# Altium footprint library MZBT_PcpLibrary.PcbLib: 144 footprints (part 8 of 9)
Each footprint in its own frame and in the unit in brackets; x right, y up, seen from the top. Pads: shape width x height; smd on the part's side, far side on the other; paste and mask are expansions set on the pad; w line width, h text height; cw(c..) or ccw(c..) is an arc to the next point about the centre after c.
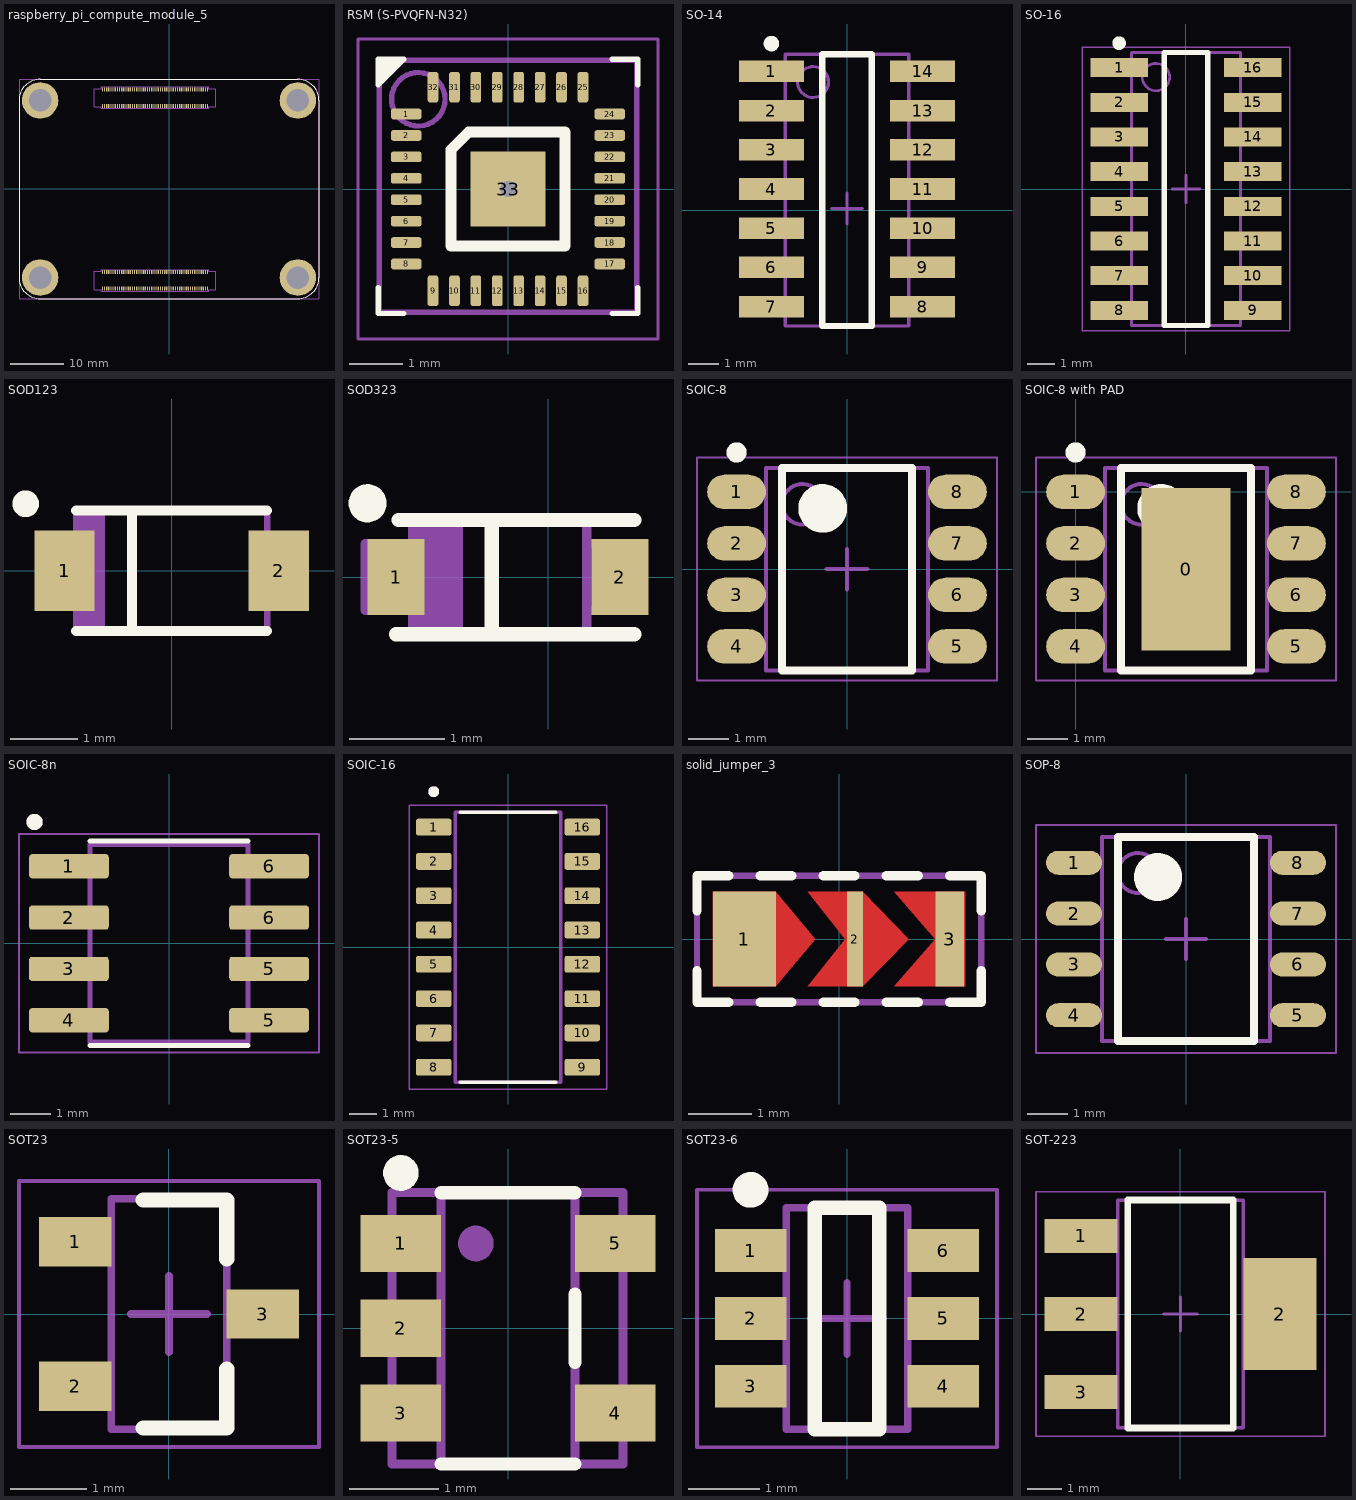
[diagram p7: the footprints below, top view; thin cyan lines are the x and y axes]

## raspberry_pi_compute_module_5 [mil]
pads (204):
  rect 9x28 smd paste+0: 1(283.17,730.65) 2(283.17,609.39) 3(267.42,730.65) 4(267.42,609.39) 5(251.67,730.65) 6(251.67,609.39) 7(235.92,730.65) 8(235.92,609.39) 9(220.17,730.65) 10(220.17,609.39) 11(204.43,730.65) 12(204.43,609.39) 13(188.68,730.65) 14(188.68,609.39) 15(172.93,730.65) 16(172.93,609.39) 17(157.18,730.65) 18(157.18,609.39) 19(141.43,730.65) 20(141.43,609.39) 21(125.69,730.65) 22(125.69,609.39) 23(109.94,730.65) 24(109.94,609.39) 25(94.19,730.65) 26(94.19,609.39) 27(78.44,730.65) 28(78.44,609.39) 29(62.69,730.65) 30(62.69,609.39) 31(46.95,730.65) 32(46.95,609.39) 33(31.2,730.65) 34(31.2,609.39) 35(15.45,730.65) 36(15.45,609.39) 37(-0.3,730.65) 38(-0.3,609.39) 39(-16.05,730.65) 40(-16.05,609.39) 41(-31.79,730.65) 42(-31.79,609.39) 43(-47.54,730.65) 44(-47.54,609.39) 45(-63.29,730.65) 46(-63.29,609.39) 47(-79.04,730.65) 48(-79.04,609.39) 49(-94.79,730.65) 50(-94.79,609.39) 51(-110.53,730.65) 52(-110.53,609.39) 53(-126.28,730.65) 54(-126.28,609.39) 55(-142.03,730.65) 56(-142.03,609.39) 57(-157.78,730.65) 58(-157.78,609.39) 59(-173.53,730.65) 60(-173.53,609.39) 61(-189.27,730.65) 62(-189.27,609.39) 63(-205.02,730.65) 64(-205.02,609.39) 65(-220.77,730.65) 66(-220.77,609.39) 67(-236.52,730.65) 68(-236.52,609.39) 69(-252.27,730.65) 70(-252.27,609.39) 71(-268.01,730.65) 72(-268.01,609.39) 73(-283.76,730.65) 74(-283.76,609.39) 75(-299.51,730.65) 76(-299.51,609.39) 77(-315.26,730.65) 78(-315.26,609.39) 79(-331.01,730.65) 80(-331.01,609.39) 81(-346.75,730.65) 82(-346.75,609.39) 83(-362.5,730.65) 84(-362.5,609.39) 85(-378.25,730.65) 86(-378.25,609.39) 87(-394,730.65) 88(-394,609.39) 89(-409.75,730.65) 90(-409.75,609.39) 91(-425.49,730.65) 92(-425.49,609.39) 93(-441.24,730.65) 94(-441.24,609.39) 95(-456.99,730.65) 96(-456.99,609.39) 97(-472.74,730.65) 98(-472.74,609.39) 99(-488.49,730.65) 100(-488.49,609.39) 101(283.17,-609.39) 102(283.17,-730.65) 103(267.42,-609.39) 104(267.42,-730.65) 105(251.67,-609.39) 106(251.67,-730.65) 107(235.92,-609.39) 108(235.92,-730.65) 109(220.17,-609.39) 110(220.17,-730.65) 111(204.43,-609.39) 112(204.43,-730.65) 113(188.68,-609.39) 114(188.68,-730.65) 115(172.93,-609.39) 116(172.93,-730.65) 117(157.18,-609.39) 118(157.18,-730.65) 119(141.43,-609.39) 120(141.43,-730.65) 121(125.69,-609.39) 122(125.69,-730.65) 123(109.94,-609.39) 124(109.94,-730.65) 125(94.19,-609.39) 126(94.19,-730.65) 127(78.44,-609.39) 128(78.44,-730.65) 129(62.69,-609.39) 130(62.69,-730.65) 131(46.95,-609.39) 132(46.95,-730.65) 133(31.2,-609.39) 134(31.2,-730.65) 135(15.45,-609.39) 136(15.45,-730.65) 137(-0.3,-609.39) 138(-0.3,-730.65) 139(-16.05,-609.39) 140(-16.05,-730.65) 141(-31.79,-609.39) 142(-31.79,-730.65) 143(-47.54,-609.39) 144(-47.54,-730.65) 145(-63.29,-609.39) 146(-63.29,-730.65) 147(-79.04,-609.39) 148(-79.04,-730.65) 149(-94.79,-609.39) 150(-94.79,-730.65) 151(-110.53,-609.39) 152(-110.53,-730.65) 153(-126.28,-609.39) 154(-126.28,-730.65) 155(-142.03,-609.39) 156(-142.03,-730.65) 157(-157.78,-609.39) 158(-157.78,-730.65) 159(-173.53,-609.39) 160(-173.53,-730.65) 161(-189.27,-609.39) 162(-189.27,-730.65) 163(-205.02,-609.39) 164(-205.02,-730.65) 165(-220.77,-609.39) 166(-220.77,-730.65) 167(-236.52,-609.39) 168(-236.52,-730.65) 169(-252.27,-609.39) 170(-252.27,-730.65) 171(-268.01,-609.39) 172(-268.01,-730.65) 173(-283.76,-609.39) 174(-283.76,-730.65) 175(-299.51,-609.39) 176(-299.51,-730.65) 177(-315.26,-609.39) 178(-315.26,-730.65) 179(-331.01,-609.39) 180(-331.01,-730.65) 181(-346.75,-609.39) 182(-346.75,-730.65) 183(-362.5,-609.39) 184(-362.5,-730.65) 185(-378.25,-609.39) 186(-378.25,-730.65) 187(-394,-609.39) 188(-394,-730.65) 189(-409.75,-609.39) 190(-409.75,-730.65) 191(-425.49,-609.39) 192(-425.49,-730.65) 193(-441.24,-609.39) 194(-441.24,-730.65) 195(-456.99,-609.39) 196(-456.99,-730.65) 197(-472.74,-609.39) 198(-472.74,-730.65) 199(-488.49,-609.39) 200(-488.49,-730.65)
  round 267.72 hole 165.35: ""(-944.88,-649.25) ""(-944.88,649.25) ""(944.88,-649.25) ""(944.88,649.25)
Top Overlay:
  lines w7.87: -1099.77,-649.26 ccw(c-944.89,-649.26) -944.89,-804.14 944.89,-804.14 ccw(c944.89,-649.26) 1099.77,-649.25 1099.77,649.25 ccw(c944.88,649.25) 944.88,804.13 -944.89,804.13 ccw(c-944.89,649.25) -1099.77,649.25 -1099.77,-649.26
Top Comment:
  text ".Comment" at -100.85,-57.85 h59.06
Top Designator (Mech9):
  text ".Designator" at -115.32,27.28 h59.06
Top Component Outline:
  lines w3.94: -1099.49,-804.13 -1099.49,804.13 1099.77,804.13 1099.77,-804.13 -1099.49,-804.13 ; -548.13,-737.23 -548.13,-670.69 -548.13,-604.15 -498.11,-604.15 -498.11,-592.01 292.25,-592.01 292.25,-604.15 341.63,-604.15 341.63,-737.23 292.25,-737.23 292.25,-748.5 -498.11,-748.5 -498.11,-737.23 -548.13,-737.23 ; -548.13,602.81 -548.13,669.35 -548.13,735.89 -498.11,735.89 -498.11,748.03 292.25,748.03 292.25,735.89 341.63,735.89 341.63,602.81 292.25,602.81 292.25,591.54 -498.11,591.54 -498.11,602.81 -548.13,602.81
Top Courtyard:
  lines w3.94: -1099.49,-804.13 -1099.49,804.13 1099.77,804.13 1099.77,-804.13 -1099.49,-804.13
3D body "SMTSO-M2.5 Гайка для пайки на плату .STEP": height 68.11, standoff -51.18, extent -1054.33,539.8 -835.44,758.7
3D body "SMTSO-M2.5 Гайка для пайки на плату .STEP": height 68.11, standoff -51.18, extent -1054.33,-758.7 -835.44,-539.8
3D body "SMTSO-M2.5 Гайка для пайки на плату .STEP": height 68.11, standoff -51.18, extent 835.44,-758.7 1054.33,-539.8
3D body "SMTSO-M2.5 Гайка для пайки на плату .STEP": height 68.11, standoff -51.18, extent 835.44,539.8 1054.33,758.7
3D body "User Library-DF40C-100DP-0_4V(51).step": height 57.09, standoff 0, extent -548.13,602.81 341.63,735.89
3D body "User Library-DF40C-100DP-0_4V(51).step": height 57.09, standoff 0, extent -548.13,-736.56 341.63,-603.48
3D body "CM5R5-3dsteps.step": height 205.16, standoff 23.23, extent -1082.68,-787.4 1082.68,787.4

## RSM (S-PVQFN-N32) [mm]
height 1
pads (33):
  rrect50% 0.575x0.2 smd mask+0.05: 1(-1.9,1.4) 2(-1.9,1) 3(-1.9,0.6) 4(-1.9,0.2) 5(-1.9,-0.2) 6(-1.9,-0.6) 7(-1.9,-1) 8(-1.9,-1.4) 17(1.9,-1.4) 18(1.9,-1) 19(1.9,-0.6) 20(1.9,-0.2) 21(1.9,0.2) 22(1.9,0.6) 23(1.9,1) 24(1.9,1.4)
  rrect50% 0.2x0.575 smd mask+0.05: 9(-1.4,-1.9) 10(-1,-1.9) 11(-0.6,-1.9) 12(-0.2,-1.9) 13(0.2,-1.9) 14(0.6,-1.9) 15(1,-1.9) 16(1.4,-1.9) 25(1.4,1.9) 26(1,1.9) 27(0.6,1.9) 28(0.2,1.9) 29(-0.2,1.9) 30(-0.6,1.9) 31(-1,1.9) 32(-1.4,1.9)
  rect 1.4x1.4 smd mask+0.05: 33(0,0)
via 0,0 diameter 0.5 hole 0.3
Top Overlay:
  region: -2.425,2.425 -1.94,2.425 -2.425,1.94
  lines w0.1: -2.425,-1.84 -2.425,-2.325 -1.94,-2.325 ; 1.94,-2.325 2.425,-2.325 2.425,-1.84 ; 1.94,2.425 2.425,2.425 2.425,1.94 ; -2.425,1.94 -1.94,2.425 -2.425,2.425 -2.425,1.94
  lines w0.2: -1.065,-1.065 -1.065,0.735 -0.735,1.065 1.065,1.065 1.065,-1.065 -1.065,-1.065
Top Designator (Mech9):
  text ".Comment" at -1.3,-0.5 h0.6
  text ".Designator" at -0.8,0.7 h0.8
Top Component Outline:
  circle w0.1: c-1.675,1.675 r0.5
  lines w0.1: -2.4,-2.3 2.4,-2.3 2.4,2.4 -2.4,2.4 -2.4,-2.3
Top Courtyard:
  lines w0.05: -2.8,-2.8 2.8,-2.8 2.8,2.8 -2.8,2.8 -2.8,-2.8
  lines w0.1: -0.5,0 0.5,0 ; 0,-0.5 0,0.5
3D body "User Library-QFN 32.step": height 0.57, standoff -0.04, extent -2.001,-2 2.001,2.002

## SO-14 [mm]
pads (14):
  rect 2.1x0.7 smd: 1(-2.45,4.497) 2(-2.45,3.227) 3(-2.45,1.957) 4(-2.45,0.687) 5(-2.45,-0.583) 6(-2.45,-1.853) 7(-2.45,-3.123) 8(2.45,-3.123) 9(2.45,-1.853) 10(2.45,-0.583) 11(2.45,0.687) 12(2.45,1.957) 13(2.45,3.227) 14(2.45,4.497)
Top Overlay:
  circle w0.25: c-2.45,5.397 r0.125
  lines w0.2: -0.8,-3.75 0.8,-3.75 0.8,5.052 -0.8,5.052 -0.8,-3.75
Top Comment:
  text ".Comment" at -0.6,-6.148 h0.6
  text ".Comment" at -2.189,-0.952 h1.52
Top Designator (Mech9):
  text ".Designator" at -2.617,0.272 h1.52
Top Component Outline:
  circle w0.1: c-1.1,4.152 r0.5
  lines w0.1: -0.5,0.052 0.5,0.052 ; 0,-0.448 0,0.552 ; -2,-3.75 2,-3.75 2,5.052 -2,5.052 -2,-3.75
3D body "User Library-so14-1.step": height 1.7, standoff 0, extent -3,-3.72 3,5.08

## SO-16 [mm] "ch340g"
height 1.75
pads (16):
  rect 2.1x0.7 smd: 1(-2.45,4.445) 2(-2.45,3.175) 3(-2.45,1.905) 4(-2.45,0.635) 5(-2.45,-0.635) 6(-2.45,-1.905) 7(-2.45,-3.175) 8(-2.45,-4.445) 9(2.45,-4.445) 10(2.45,-3.175) 11(2.45,-1.905) 12(2.45,-0.635) 13(2.45,0.635) 14(2.45,1.905) 15(2.45,3.175) 16(2.45,4.445)
Top Overlay:
  circle w0.25: c-2.45,5.345 r0.125
  lines w0.2: -0.8,-5 0.8,-5 0.8,5 -0.8,5 -0.8,-5
Top Comment:
  text ".Comment" at -2.189,-0.952 h1.52
Top Designator (Mech9):
  text ".Designator" at -2.617,0.272 h1.52
Top Component Outline:
  circle w0.1: c-1.1,4.1 r0.5
  lines w0.1: -0.5,0 0.5,0 ; 0,-0.5 0,0.5 ; -2,-5 2,-5 2,5 -2,5 -2,-5
Top Courtyard:
  lines w0.05: -3.8,-5.2 3.8,-5.2 3.8,5.2 -3.8,5.2 -3.8,-5.2
3D body "so16-1 (SOT109-1).STEP": height 1.78, standoff 0.01, extent -3.018,-4.985 3.118,4.985

## SOD123 [mm]
height 1.35
pads (2):
  rect 0.9x1.2 smd: 1(-1.6,0) 2(1.6,0)
Top Overlay:
  circle w0.2: c-2.18,1 r0.1
  lines w0.15: -1.425,-0.9 1.425,-0.9 ; -1.425,0.9 1.425,0.9 ; -0.595,-0.9 -0.595,0.9
Top Comment:
  text ".Comment" at -0.861,-0.374 h0.6
Top Designator (Mech9):
  text ".Designator" at -1.376,0.143 h0.8
Top Component Outline:
  lines w0.1: -1.425,-0.35 -1.925,-0.35 -1.925,0.35 -1.425,0.35 ; -1.33,-0.9 -1.33,0.9 ; -1.235,-0.9 -1.235,0.9 ; -1.14,-0.9 -1.14,0.9 ; -1.045,-0.9 -1.045,0.9 ; 1.425,-0.35 1.925,-0.35 1.925,0.35 1.425,0.35 ; -1.425,-0.9 1.425,-0.9 1.425,0.9 -1.425,0.9 -1.425,-0.9
3D body "SOT-123.step": height 1.12, standoff -0.03, extent -1.875,-0.775 1.825,0.825

## SOD323 [mm]
height 1.35
pads (2):
  rect 0.6x0.8 smd: 1(-1.6,0) 2(0.75,0)
Top Overlay:
  circle w0.2: c-1.9,0.775 r0.1
  lines w0.15: -1.6,-0.6 0.9,-0.6 ; -1.575,0.6 0.9,0.6 ; -0.595,-0.6 -0.595,0.6
Top Comment:
  text ".Comment" at -1.211,-0.449 h0.6
Top Designator (Mech9):
  text ".Designator" at -1.726,0.068 h0.8
Top Component Outline:
  lines w0.1: -1.425,-0.35 -1.925,-0.35 -1.925,0.35 -1.425,0.35 ; -1.35,-0.6 -1.35,0.6 ; -1.25,-0.6 -1.25,0.6 ; -1.15,-0.6 -1.15,0.6 ; -1.05,-0.6 -1.05,0.6 ; -0.95,-0.6 -0.95,0.6 ; 0.4,-0.35 0.9,-0.35 0.9,0.35 0.4,0.35 ; -1.425,-0.6 0.4,-0.6 0.4,0.6 -1.425,0.6 -1.425,-0.6
3D body "User Library-SOD323F-1.STEP": height 1, standoff 0, extent -1.675,-0.675 0.825,0.675

## SOIC-8 [mm] "LMV358"
height 1.75
pads (8):
  oval 1.45x0.85 smd: 1(-2.725,1.905) 2(-2.725,0.635) 3(-2.725,-0.635) 4(-2.725,-1.905) 5(2.725,-1.905) 6(2.725,-0.635) 7(2.725,0.635) 8(2.725,1.905)
Top Overlay:
  circle w0.25: c-2.725,2.88 r0.125
  circle w0.6: c-0.6,1.5 r0.3
  lines w0.2: -1.6,-2.5 -1.6,2.5 1.6,2.5 1.6,-2.5 -1.6,-2.5
Top Comment:
  text ".Comment" at -2.189,-0.952 h1.52
Top Designator (Mech9):
  text ".Designator" at -2.617,0.272 h1.52
Top 3D Body (Mech13):
  circle w0.1: c-1.1,1.6 r0.5
  lines w0.1: -2,-2.5 -2,2.5 2,2.5 2,-2.5 -2,-2.5
Top Courtyard:
  lines w0.05: -3.7,-2.75 -3.7,2.75 3.7,2.75 3.7,-2.75 -3.7,-2.75
  lines w0.1: -0.5,0 0.5,0 ; 0,-0.5 0,0.5
3D body "User Library-SOIC-8-1.step": height 1.75, standoff 0, extent -3,-2.45 3,2.45

## SOIC-8 with PAD [mm]
pads (9):
  rect 2.2x4 smd: 0(2.725,-1.905)
  oval 1.45x0.85 smd: 1(0,0) 2(0,-1.27) 3(0,-2.54) 4(0,-3.81) 5(5.45,-3.81) 6(5.45,-2.54) 7(5.45,-1.27) 8(5.45,0)
Top Overlay:
  circle w0.25: c0,0.975 r0.125
  circle w0.6: c2.125,-0.405 r0.3
  lines w0.2: 1.125,-4.405 1.125,0.595 4.325,0.595 4.325,-4.405 1.125,-4.405
Top Comment:
  text ".Comment" at 0.511,-2.852 h1.52
Top Designator (Mech9):
  text ".Designator" at 0.083,-1.628 h1.52
Top 3D Body (Mech13):
  circle w0.1: c1.625,-0.305 r0.5
  lines w0.1: 0.725,-4.405 0.725,0.595 4.725,0.595 4.725,-4.405 0.725,-4.405
Top Courtyard:
  lines w0.05: -0.975,-4.655 -0.975,0.845 6.425,0.845 6.425,-4.655 -0.975,-4.655
  lines w0.1: 2.225,-1.905 3.225,-1.905 ; 2.725,-2.405 2.725,-1.405
3D body "User Library-SOIC-8-1.step": height 1.75, standoff 0, extent -0.275,-4.355 5.725,0.545

## SOIC-8n [mm]
pads (8):
  rrect25% 1.97x0.6 smd: 1(-2.475,1.905) 2(-2.475,0.635) 3(-2.475,-0.635) 4(-2.475,-1.905) 5(2.475,-1.905) 5(2.475,-0.635) 6(2.475,0.635) 6(2.475,1.905)
Top Overlay:
  circle w0.2: c-3.325,3 r0.1
  lines w0.127: -1.95,-2.525 1.95,-2.525 ; -1.95,2.525 1.95,2.525
Top Comment:
  text ".Comment" at -2.189,-0.952 h1.52
Top Designator (Mech9):
  text ".Designator" at -2.617,0.272 h1.52
Top 3D Body (Mech13):
  circle w0.2: c-3.325,3 r0.1
  lines w0.127: -1.95,-2.45 -1.95,2.45 1.95,2.45 1.95,-2.45 -1.95,-2.45
Top Courtyard:
  lines w0.05: -3.71,-2.7 -3.71,2.7 3.71,2.7 3.71,-2.7 -3.71,-2.7
3D body "step_temp.STEP": height 3.63, standoff 0, extent -2.97,-2.44 2.97,2.44

## SOIC-16 [mm]
pads (16):
  rrect25% 1.31x0.62 smd: 1(-2.75,4.445) 2(-2.75,3.175) 3(-2.75,1.905) 4(-2.75,0.635) 5(-2.75,-0.635) 6(-2.75,-1.905) 7(-2.75,-3.175) 8(-2.75,-4.445) 9(2.75,-4.445) 10(2.75,-3.175) 11(2.75,-1.905) 12(2.75,-0.635) 13(2.75,0.635) 14(2.75,1.905) 15(2.75,3.175) 16(2.75,4.445)
Top Overlay:
  circle w0.2: c-2.75,5.755 r0.1
  lines w0.127: -1.775,-5 1.775,-5 ; -1.775,5 1.775,5
Top Comment:
  text ".Comment" at -2.189,-0.952 h1.52
Top Designator (Mech9):
  text ".Designator" at -2.617,0.272 h1.52
Top 3D Body (Mech13):
  circle w0.2: c-2.75,5.755 r0.1
  lines w0.127: -1.95,-5 1.95,-5 1.95,5 -1.95,5 -1.95,-5
Top Courtyard:
  lines w0.05: -3.655,-5.25 -3.655,5.25 3.655,5.25 3.655,-5.25 -3.655,-5.25
3D body "step_temp.STEP": height 1.8, standoff 0, extent -3,-5 3,5

## solid_jumper_3 [mm]
pads (3):
  rect 1x1.5 smd mask+0.1: 1(-1.5,0)
  rect 0.25x1.5 smd: 2(0.25,0)
  rect 0.45x1.5 smd: 3(1.75,0)
Top Layer:
  region: -0.5,0.75 0.375,0.75 1.1,0 0.375,-0.75 -0.5,-0.75 0.1,0
  region: -2,0.75 -1,0.75 -0.375,0 -1,-0.75 -2,-0.75
  region: 2,0.75 0.875,0.75 1.525,0 0.875,-0.75 2,-0.75
Top Overlay:
  lines w0.15: -2.25,-0.5 -2.25,-1 -1.75,-1 ; -2.25,0.45 -2.25,1 -1.75,1 ; -1.25,-1 -0.75,-1 ; -1.25,1 -0.75,1 ; -0.25,-1 0.25,-1 ; -0.25,1 0.25,1 ; 0.75,-1 1.25,-1 ; 0.75,1 1.25,1 ; 1.75,-1 2.25,-1 2.25,-0.5 ; 1.75,1 2.25,1 2.25,0.45
Top Solder:
  rectangle: -1,-0.85 2.1,0.85
Bottom Court:
  lines w0.1: -2.25,-1 2.25,-1 2.25,1 -2.25,1 -2.25,-1

## SOP-8 [mm] "SOP127P600X175-8N, SOP, 8-Leads, Body 4,91x3,95mm, Pitch 1,27mm, IPC Medium Density"
height 1.75
pads (8):
  oval 1.4x0.6 smd: 1(-2.8,1.905) 2(-2.8,0.635) 3(-2.8,-0.635) 4(-2.8,-1.905) 5(2.8,-1.905) 6(2.8,-0.635) 7(2.8,0.635) 8(2.8,1.905)
Top Overlay:
  circle w0.6: c-0.7,1.55 r0.3
  lines w0.2: -1.7,-2.55 -1.7,2.55 1.7,2.55 1.7,-2.55 -1.7,-2.55
Top Comment:
  text ".Comment" at -0.861,-0.374 h0.6
Top Designator (Mech9):
  text ".Designator" at -1.376,0.143 h0.8
Top 3D Body (Mech13):
  circle w0.1: c-1.2,1.65 r0.5
  lines w0.1: -2.1,-2.55 -2.1,2.55 2.1,2.55 2.1,-2.55 -2.1,-2.55
Top Courtyard:
  lines w0.05: -3.75,-2.85 -3.75,2.85 3.75,2.85 3.75,-2.85 -3.75,-2.85
  lines w0.1: -0.5,0 0.5,0 ; 0,-0.5 0,0.5
3D body: height 1.75, standoff 0, extent -2.1,-2.55 2.1,2.55

## SOT23 [mm] "mosfet"
height 1.12
pads (3):
  rect 0.95x0.65 smd: 1(-1.235,0.95) 2(-1.235,-0.95) 3(1.235,0)
Top Overlay:
  lines w0.2: -0.34,-1.5 0.76,-1.5 0.76,-0.725 ; -0.34,1.5 0.76,1.5 0.76,0.725
Top Comment:
  text ".Comment" at -0.861,-0.374 h0.6
Top Designator (Mech9):
  text ".Designator" at -1.376,0.143 h0.8
Top 3D Body (Mech13):
  lines w0.1: -0.76,-1.52 0.76,-1.52 0.76,1.52 -0.76,1.52 -0.76,-1.52
Top Courtyard:
  lines w0.05: -1.975,-1.75 1.975,-1.75 1.975,1.75 -1.975,1.75 -1.975,-1.75
  lines w0.1: -0.5,0 0.5,0 ; 0,-0.5 0,0.5
3D body "CircuitWorks-SOT-23.step": height 1.05, standoff -0.05, extent -1.25,-1.5 1.25,1.5

## SOT23-5 [mm]
height 1.12
pads (5):
  rect 0.9x0.64 smd: 1(-1.2,0.95) 2(-1.2,0) 3(-1.2,-0.95) 4(1.2,-0.95) 5(1.2,0.95)
Top Overlay:
  circle w0.2: c-1.2,1.74 r0.1
  lines w0.15: -0.75,-1.52 0.75,-1.52 ; -0.75,1.52 0.75,1.52 ; 0.75,-0.38 0.75,0.38
Top Comment:
  text ".Comment" at 0.374,-0.861 h0.6
Top Designator (Mech9):
  text ".Designator" at -0.143,-1.376 h0.8
Top Component Outline:
  circle w0.2: c-0.36,0.95 r0.1
  lines w0.1: -0.75,-1.52 -0.75,1.52 ; 0.75,-1.52 0.75,1.52 ; -1.3,-1.52 -1.3,1.52 1.29,1.52 1.29,-1.52 -1.3,-1.52
3D body "SOT-23-5.STEP": height 1.05, standoff -0.05, extent -1.225,-1.5 1.275,1.5

## SOT23-6 [mm] "SOT95P280X145-6N, SOT23, 6-Leads, Body 2,90x2,80mm, Pitch 0,95mm, IPC Medium Density"
height 1.45
pads (6):
  rect 1x0.6 smd: 1(-1.35,0.95) 2(-1.35,0) 3(-1.35,-0.95) 4(1.35,-0.95) 5(1.35,0) 6(1.35,0.95)
Top Overlay:
  circle w0.25: c-1.35,1.8 r0.125
  lines w0.2: -0.45,-1.55 0.45,-1.55 0.45,1.55 -0.45,1.55 -0.45,-1.55
Top Comment:
  text ".Comment" at -0.861,-0.374 h0.6
Top Designator (Mech9):
  text ".Designator" at -1.376,0.143 h0.8
Top 3D Body (Mech13):
  lines w0.1: -0.85,-1.55 -0.85,1.55 0.85,1.55 0.85,-1.55 -0.85,-1.55
Top Courtyard:
  lines w0.05: -2.1,-1.8 -2.1,1.8 2.1,1.8 2.1,-1.8 -2.1,-1.8
  lines w0.1: -0.5,0 0.5,0 ; 0,-0.5 0,0.5
3D body: height 1.45, standoff 0, extent -0.85,-1.55 0.85,1.55

## SOT-223 [mm] "MC33269"
height 1.75
pads (4):
  rect 2.15x1 smd: 1(-2.925,2.3) 2(-2.925,0) 3(-2.925,-2.3)
  rect 2.15x3.3 smd: 2(2.925,0)
Top Overlay:
  lines w0.2: -1.55,-3.35 -1.55,3.35 1.55,3.35 1.55,-3.35 -1.55,-3.35
Top Comment:
  text ".Comment" at -2.189,-0.952 h1.52
Top Designator (Mech9):
  text ".Designator" at -2.617,0.272 h1.52
Top 3D Body (Mech13):
  lines w0.1: -1.85,-3.35 -1.85,3.35 1.85,3.35 1.85,-3.35 -1.85,-3.35
Top Courtyard:
  lines w0.05: -4.25,-3.6 -4.25,3.6 4.25,3.6 4.25,-3.6 -4.25,-3.6
  lines w0.1: -0.5,0 0.5,0 ; 0,-0.5 0,0.5
3D body "CircuitWorks-SOT-223.step": height 1.65, standoff -0.03, extent -3.48,-3.25 3.48,3.25